# Altium footprint library LH_Pcblib.PcbLib: 30 footprints (part 1 of 2)
Each footprint in its own frame and in the unit in brackets; x right, y up, seen from the top. Pads: shape width x height; smd on the part's side, far side on the other; paste and mask are expansions set on the pad; w line width, h text height; cw(c..) or ccw(c..) is an arc to the next point about the centre after c.
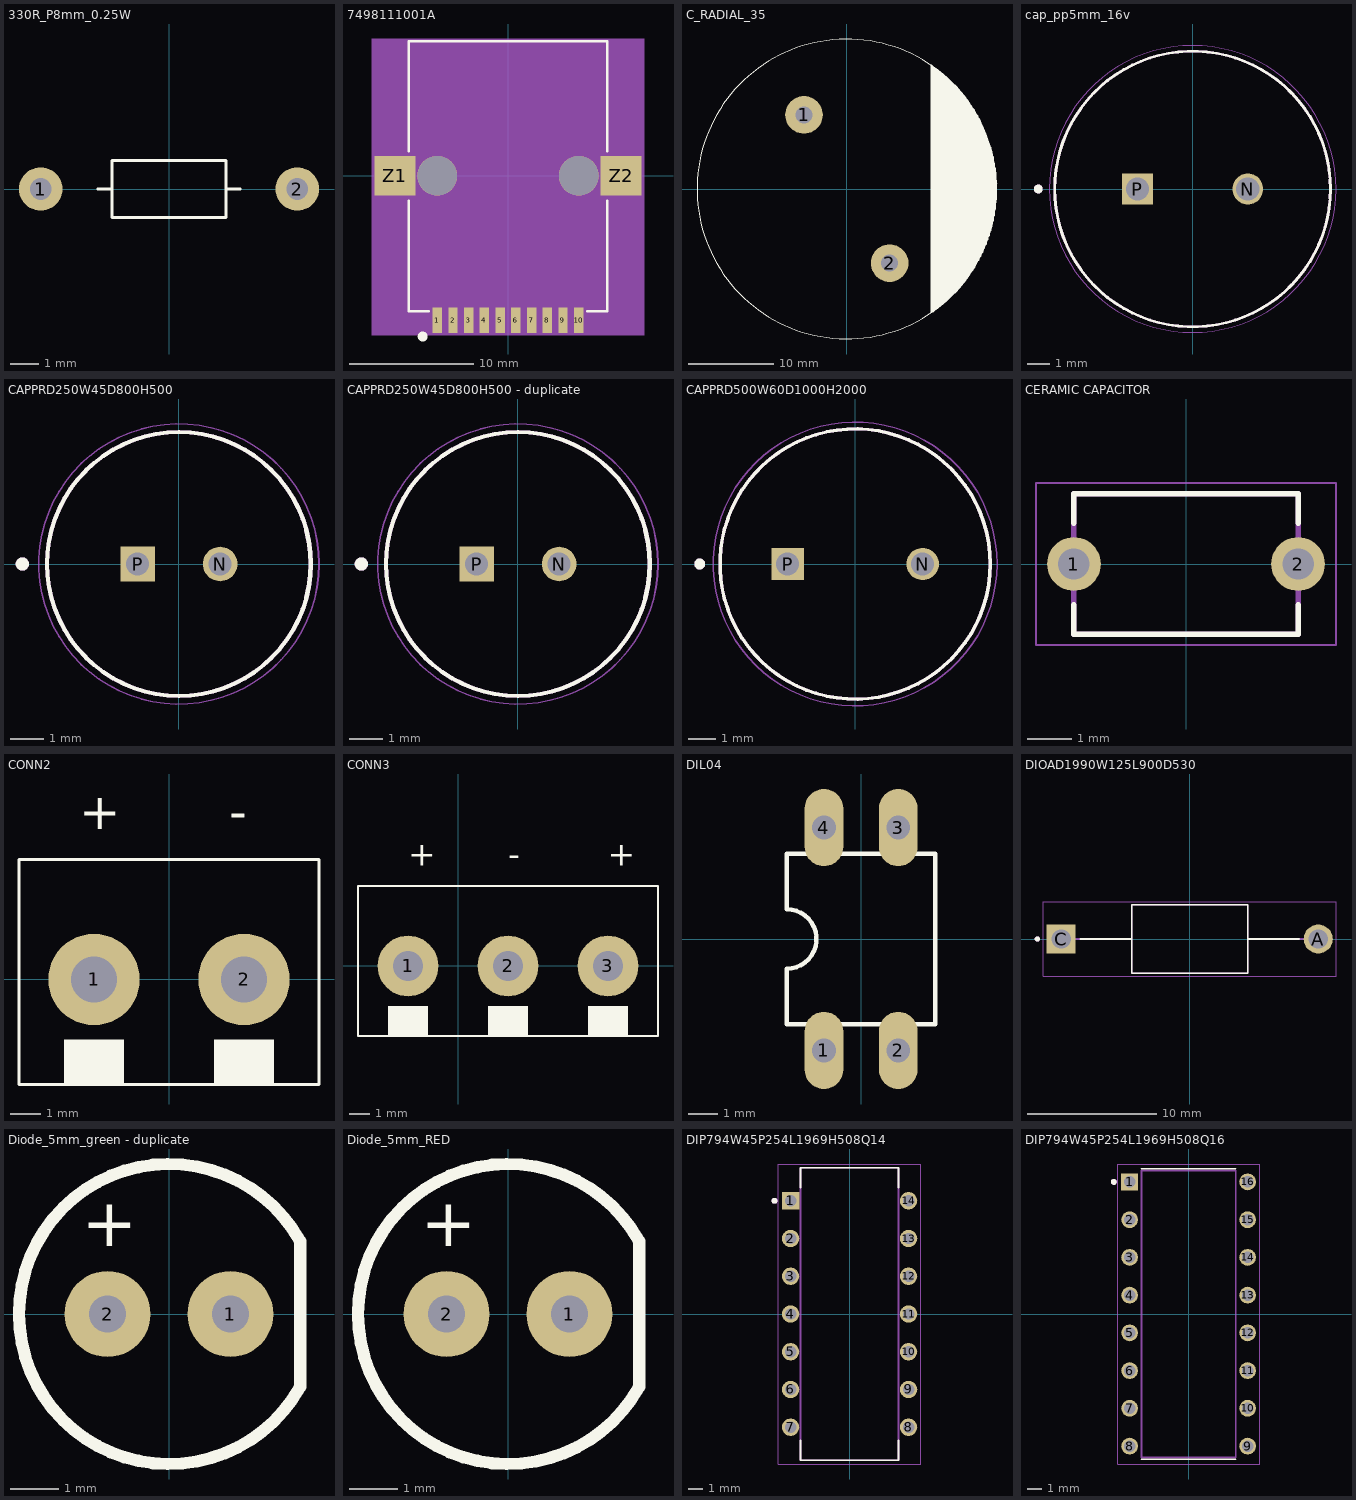
[diagram p0: the footprints below, top view; thin cyan lines are the x and y axes]

## 330R_P8mm_0.25W [mil]
pads (2):
  round 60 hole 30: 1(-177.17,0) 2(177.17,0)
Top Overlay:
  lines w3.94: -98.43,0 -78.74,0 ; 78.74,0 98.43,0 ; -78.74,-39.37 -78.74,39.37 78.74,39.37 78.74,-39.37 -78.74,-39.37
3D body "R330_L8mm_0.25watts.STEP": height 103.74, standoff -103.35, extent -167.32,-49.61 167.32,49.61

## 7498111001A [mm]
pads (14):
  rect 0.76x2.03 smd: 1(-5.715,-11.68) 2(-4.445,-11.68) 3(-3.175,-11.68) 4(-1.905,-11.68) 5(-0.635,-11.68) 6(0.635,-11.68) 7(1.905,-11.68) 8(3.175,-11.68) 9(4.445,-11.68) 10(5.715,-11.68)
  rect 3.3x3.18 smd: Z1(-9.145,0) Z2(9.145,0)
  round 3.22 hole 3.22 unplated: ""(-5.715,0) ""(5.715,0)
Top Overlay:
  circle w0.4: c-6.9,-13 r0.2
  lines w0.2: -8.04,-2 -8.04,-10.94 -6.4,-10.94 ; -8.04,2 -8.04,10.86 8.04,10.86 8.04,2 ; 6.4,-10.94 8.04,-10.94 8.04,-2
Mechanical 13:
  lines w0.1: -7.94,-10.84 7.94,-10.84 7.94,10.76 -7.94,10.76 -7.94,-10.84
Mechanical 15:
  region: 11,-12.9 -11,-12.9 -11,11.06 11,11.06
3D body "step_temp.STEP": height 11.9, standoff -10.7, extent -10.25,-9.47 10.25,6.75

## C_RADIAL_35 [mm]
pads (2):
  round 4.4 hole 2: 1(-5,8.66) 2(5,-8.66)
Top Overlay:
  circle w0.127: c0,0 r17.5
  region: 14.95,9.165 10.61,9.165 10.61,-9.19 14.95,-9.19
  region: 9.81,-14.49 9.81,14.5 9.89,14.5 10.3,14.09 10.46,14.09 11.05,13.5 11.22,13.5 13.52,11.2 13.52,11.02 14.17,10.37 14.17,10.17 14.6,9.74 14.6,9.54 14.63,9.54 14.93,9.24 14.93,9.09
  region: 14.93,-9.19 9.81,-14.31 9.81,-9.56 10.32,-9.05
  region: 14.93,-9.19 9.81,-14.31 9.81,-14.49 9.93,-14.37 10.08,-14.37 10.57,-13.88 10.74,-13.88 11.42,-13.2 11.54,-13.2 13.29,-11.45 13.29,-11.4
  region: 14.93,9.09 14.93,3.28 17.54,0.67 14.73,-2.14 14.73,-2.12 17.54,0.69 17.44,0.79 17.44,1.97 17.3,2.11 17.3,2.96
  region: 17.37,2.04 17.37,2.465 17.3,2.535 17.3,2.11
  region: 17.14,3.5 17.14,3.77 16.99,3.92 16.99,4.34 16.86,4.47 16.86,4.87 16.72,5.01 16.65,4.94 16.65,5.37 15.8,6.22
  region: 16.72,5.01 16.65,5.08 16.65,4.94
  region: 16.72,5.01 16.65,5.08
  region: 16.65,5.08 16.72,5.01 16.72,5.3 16.65,5.37
  region: 17.14,3.5 17.1,3.54 16.6,3.54 16.6,4.05 16.71,4.16 16.74,4.13 16.99,4.13
  region: 16.65,5.37 16.36,5.37 14.93,6.8 14.93,8.96 15.33,8.56 15.33,8.39 15.51,8.21
  region: 17.49,0.74 17.51,0.72 17.51,-1.24 17.39,-1.36 17.4,-1.37 17.4,-2.35 17.27,-2.48 17.27,-3.14 17.26,-3.14 17.14,-3.26 17.15,-3.27 17.15,-3.75 17.01,-3.89 17.01,-4.32 16.86,-4.47 16.86,-4.89 16.69,-5.06 16.69,-5.44 16.52,-5.61 16.52,-5.94 16.33,-6.13 16.33,-6.44 16.13,-6.64 16.13,-6.93 15.93,-7.13 15.93,-7.37 15.71,-7.59 15.71,-7.83 15.46,-8.08 15.46,-8.31 15.2,-8.57 15.2,-8.75 14.98,-8.97 14.98,-9.14 14.93,-9.19 14.88,-9.14 14.88,3.55
  region: 14.66,-9.41 14.62,-9.45 10.3,-9.45 10.3,-8.61 10.26,-8.57 15.2,-8.57 15.2,-8.75 14.98,-8.97 14.98,-9.14 14.76,-9.36 14.76,-9.51 14.66,-9.61
  region: 15.37,3.21 15.23,3.35 13.99,3.35 13.99,9.56 14.385,9.955 14.6,9.74 14.6,9.54 14.93,9.21 14.93,8.96 15.33,8.56 15.33,8.39

## cap_pp5mm_16v [mm]
pads (2):
  round 1.4 hole 1.05: N(2.5,0)
  rect 1.4x1.4 hole 1.05: P(-2.5,0)
Top Overlay:
  circle w0.2: c-7,0 r0.1
  circle w0.127: c0,0 r6.25
Mechanical 13:
  circle w0.2: c-7,0 r0.1
  circle w0.127: c0,0 r6.25
Mechanical 15:
  circle w0.05: c0,0 r6.5
3D body "step_temp.STEP": height 30, standoff -17, extent -7,-6.25 5.5,6.25

## CAPPRD250W45D800H500 [mm]
pads (2):
  round 1.05 hole 0.7: N(1.25,0)
  rect 1.05x1.05 hole 0.7: P(-1.25,0)
Top Overlay:
  circle w0.127: c0,0 r4
  circle w0.2: c-4.75,0 r0.1
Mechanical 13:
  circle w0.127: c0,0 r4
  circle w0.2: c-4.75,0 r0.1
Mechanical 15:
  circle w0.05: c0,0 r4.25
3D body "step_temp.STEP": height 5, standoff -17, extent -4,-3.999 4,3.999

## CAPPRD250W45D800H500 - duplicate [mm]
pads (2):
  round 1.05 hole 0.7: N(1.25,0)
  rect 1.05x1.05 hole 0.7: P(-1.25,0)
Top Overlay:
  circle w0.127: c0,0 r4
  circle w0.2: c-4.75,0 r0.1
Mechanical 13:
  circle w0.127: c0,0 r4
  circle w0.2: c-4.75,0 r0.1
Mechanical 15:
  circle w0.05: c0,0 r4.25
3D body "step_temp.STEP": height 5, standoff -17, extent -4,-3.999 4,3.999

## CAPPRD500W60D1000H2000 [mm]
pads (2):
  round 1.2 hole 0.85: N(2.5,0)
  rect 1.2x1.2 hole 0.85: P(-2.5,0)
Top Overlay:
  circle w0.2: c-5.75,0 r0.1
  circle w0.127: c0,0 r5
Mechanical 13:
  circle w0.2: c-5.75,0 r0.1
  circle w0.127: c0,0 r5
Mechanical 15:
  circle w0.05: c0,0 r5.25
3D body "step_temp.STEP": height 20, standoff -17, extent -5,-5 5,5

## CERAMIC CAPACITOR [mm]
pads (2):
  round 1.218 hole 0.71: 1(-2.54,0) 2(2.54,0)
Top Overlay:
  lines w0.127: -2.54,-0.929 -2.54,-1.587 2.54,-1.587 2.54,-0.929 ; -2.54,0.929 -2.54,1.587 2.54,1.587 2.54,0.929
Mechanical 13:
  lines w0.127: -2.54,-1.587 2.54,-1.587 2.54,1.587 -2.54,1.587 -2.54,-1.587
Mechanical 15:
  lines w0.05: -3.399,-1.837 3.399,-1.837 3.399,1.837 -3.399,1.837 -3.399,-1.837
3D body "step_temp.STEP": height 5.86, standoff -7.62, extent -2.794,-1.587 2.794,1.587

## CONN2 [mil]
pads (2):
  round 120 hole 60: 1(-98.43,0) 2(98.43,0)
Top Overlay:
  rectangle: 59.06,-137.8 137.8,-78.74
  rectangle: -137.8,-137.8 -59.06,-78.74
  lines w3.94: -196.85,-137.8 -196.85,157.48 196.85,157.48 196.85,-137.8 -196.85,-137.8
  text "-" at 78.74,196.85 h47.24
  text "+" at -118.11,196.85 h47.24
3D body "Connector.STEP": height 394.2, standoff -127.45, extent -196.85,-137.8 196.85,157.48

## CONN3 [mil]
pads (3):
  round 120 hole 60: 1(-98.43,0) 2(98.43,0) 3(295.28,0)
Top Overlay:
  rectangle: -137.8,-137.8 -59.06,-78.74
  rectangle: 59.06,-137.8 137.8,-78.74
  rectangle: 255.91,-137.8 334.65,-78.74
  lines w3.94: -196.85,-137.8 -196.85,157.48 393.7,157.48 393.7,-137.8 -196.85,-137.8
  text "-" at 98.43,196.85 h47.24
  text "+" at -98.43,196.85 h47.24
  text "+" at 295.28,196.85 h47.24
3D body "bornera de 3 terminales v2.0.STEP": height 394.21, standoff -156.97, extent -196.85,-153.55 393.7,161.42

## DIL04 [mil]
pads (4):
  oval 52x104 hole 32: 1(-50,-150) 2(50,-150) 3(50,150) 4(-50,150)
Top Overlay:
  lines w6: -100,-115 -100,-40 ccw(c-100,0) -100,40 -100,115 100,115 100,-115 -100,-115
3D body "step_temp.STEP": height 179.13, standoff -141.73, extent -90.55,-154.92 90.55,154.92

## DIOAD1990W125L900D530 [mm]
height 5.6
pads (2):
  round 2.25 hole 1.5: A(9.95,0)
  rect 2.25x2.25 / inner round 2.25 / far side rect 2.25x2.25 hole 1.5: C(-9.95,0)
Top Overlay:
  circle w0.2: c-11.8,0 r0.1
  lines w0.127: -8.47,0 -4.5,0 ; 8.47,0 4.5,0 ; -4.5,0 -4.5,-2.65 4.5,-2.65 4.5,0 ; -4.5,0 -4.5,2.65 4.5,2.65 4.5,0
Mechanical 13:
  circle w0.2: c-11.8,0 r0.1
  lines w0.127: -9.95,0 -4.5,0 ; 9.95,0 4.5,0 ; -4.5,0 -4.5,-2.65 4.5,-2.65 4.5,0 ; -4.5,0 -4.5,2.65 4.5,2.65 4.5,0
Mechanical 15:
  lines w0.05: -11.325,-2.9 11.325,-2.9 11.325,2.9 -11.325,2.9 -11.325,-2.9
3D body "step_temp.STEP": height 5.3, standoff -20.3, extent -8.125,-2.65 8.125,2.65

## Diode_5mm_green - duplicate [mil]
pads (2):
  round 70 hole 30: 1(50,0) 2(-50,0)
Top Overlay:
  lines w10: 106.69,-59.27 cw(c0,0) 106.69,59.27 106.69,-59.27
  text "+" at -70.87,55.12 h39.37
3D body "LED_GREEN_5MM.STEP": height 354.83, standoff -196.35, extent -118.11,-118.11 98.43,118.11

## Diode_5mm_RED [mil]
pads (2):
  round 70 hole 30: 1(50,0) 2(-50,0)
Top Overlay:
  lines w10: 106.69,-59.27 cw(c0,0) 106.69,59.27 106.69,-59.27
  text "+" at -70.87,55.12 h39.37
3D body "WP7113SRD_E.STEP": height 732.78, standoff -668.79, extent -98.42,-116.14 116.14,116.14

## DIP794W45P254L1969H508Q14 [mm]
pads (14):
  rect 1.17x1.17 / inner round 1.17 / far side rect 1.17x1.17 hole 0.77: 1(-3.97,7.62)
  round 1.17 hole 0.77: 2(-3.97,5.08) 3(-3.97,2.54) 4(-3.97,0) 5(-3.97,-2.54) 6(-3.97,-5.08) 7(-3.97,-7.62) 8(3.97,-7.62) 9(3.97,-5.08) 10(3.97,-2.54) 11(3.97,0) 12(3.97,2.54) 13(3.97,5.08) 14(3.97,7.62)
Top Overlay:
  circle w0.2: c-5.055,7.62 r0.1
  lines w0.127: -3.3,-8.525 -3.3,-9.845 3.3,-9.845 3.3,-8.525 ; -3.3,8.525 -3.3,9.845 3.3,9.845 3.3,8.525
Mechanical 13:
  circle w0.2: c-5.055,7.62 r0.1
  lines w0.127: -3.3,-9.845 3.3,-9.845 3.3,9.845 -3.3,9.845 -3.3,-9.845
Mechanical 15:
  lines w0.05: -4.805,-10.095 4.805,-10.095 4.805,10.095 -4.805,10.095 -4.805,-10.095
3D body "step_temp.STEP": height 5.08, standoff -3.18, extent -3.935,-9.653 3.935,9.653

## DIP794W45P254L1969H508Q16 [mm]
height 5.08
pads (16):
  rect 1.13x1.13 / inner round 1.13 / far side rect 1.13x1.13 hole 0.78: 1(-3.97,8.89)
  round 1.13 hole 0.78: 2(-3.97,6.35) 3(-3.97,3.81) 4(-3.97,1.27) 5(-3.97,-1.27) 6(-3.97,-3.81) 7(-3.97,-6.35) 8(-3.97,-8.89) 9(3.97,-8.89) 10(3.97,-6.35) 11(3.97,-3.81) 12(3.97,-1.27) 13(3.97,1.27) 14(3.97,3.81) 15(3.97,6.35) 16(3.97,8.89)
Top Overlay:
  circle w0.2: c-5.035,8.89 r0.1
  lines w0.127: -3.175,-9.775 3.175,-9.775 ; -3.175,9.775 3.175,9.775
Mechanical 13:
  circle w0.2: c-5.035,8.89 r0.1
  lines w0.127: -3.175,-9.653 -3.175,9.653 3.175,9.653 3.175,-9.653 -3.175,-9.653
Mechanical 15:
  lines w0.05: -4.785,-10.095 -4.785,10.095 4.785,10.095 4.785,-10.095 -4.785,-10.095
3D body "step_temp.STEP": height 5.08, standoff -3, extent -4.153,-9.653 4.153,9.653